# Altium footprint library PHDR-2X11-TH-M.PcbLib: 1 footprints
Each footprint in its own frame and in the unit in brackets; x right, y up, seen from the top. Pads: shape width x height; smd on the part's side, far side on the other; paste and mask are expansions set on the pad; w line width, h text height; cw(c..) or ccw(c..) is an arc to the next point about the centre after c.
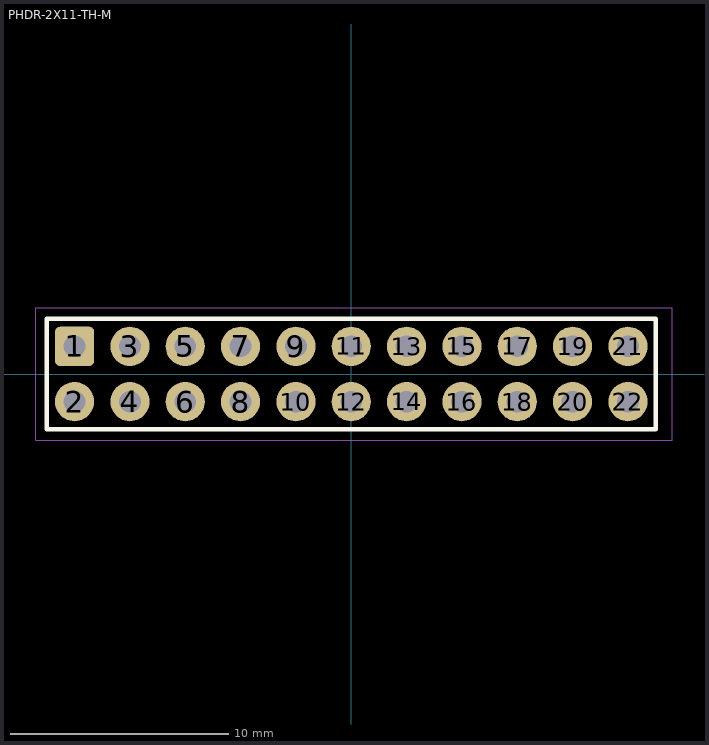
[diagram p0: the footprint, top view; thin cyan lines are the x and y axes]

## PHDR-2X11-TH-M [mm] "PinHeader 2x11 TH Pitch 2.54mm"
height 9.5
pads (22):
  rrect25% 1.8x1.8 hole 1: 1(-12.7,1.27)
  round 1.8 hole 1: 2(-12.7,-1.27) 3(-10.16,1.27) 4(-10.16,-1.27) 5(-7.62,1.27) 6(-7.62,-1.27) 7(-5.08,1.27) 8(-5.08,-1.27) 9(-2.54,1.27) 10(-2.54,-1.27) 11(0,1.27) 12(0,-1.27) 13(2.54,1.27) 14(2.54,-1.27) 15(5.08,1.27) 16(5.08,-1.27) 17(7.62,1.27) 18(7.62,-1.27) 19(10.16,1.27) 20(10.16,-1.27) 21(12.7,1.27) 22(12.7,-1.27)
Top Overlay:
  lines w0.2: -13.97,-2.54 13.97,-2.54 13.97,2.54 -13.97,2.54 -13.97,-2.54
Top Assembly:
  circle w0.5: c-12.7,1.27 r0.15
  lines w0.1: -13.97,-2.54 -13.97,2.54 13.97,2.54 13.97,-2.54 -13.97,-2.54
Top Courtyard:
  lines w0.05: -14.478,-3.048 -14.478,3.048 14.732,3.048 14.732,-3.048 -14.478,-3.048
Top Designator:
  text ".Designator" at -7.498,-0.5 h1.5
3D body "Pin Header 2x11 TH Pitch 2.54mm.stp": height 9.5, standoff -3.2, extent -13.97,-2.54 13.97,2.54